# Altium footprint library SMD-IC  0607.PcbLib: 125 footprints (part 5 of 8)
Each footprint in its own frame and in the unit in brackets; x right, y up, seen from the top. Pads: shape width x height; smd on the part's side, far side on the other; paste and mask are expansions set on the pad; w line width, h text height; cw(c..) or ccw(c..) is an arc to the next point about the centre after c.
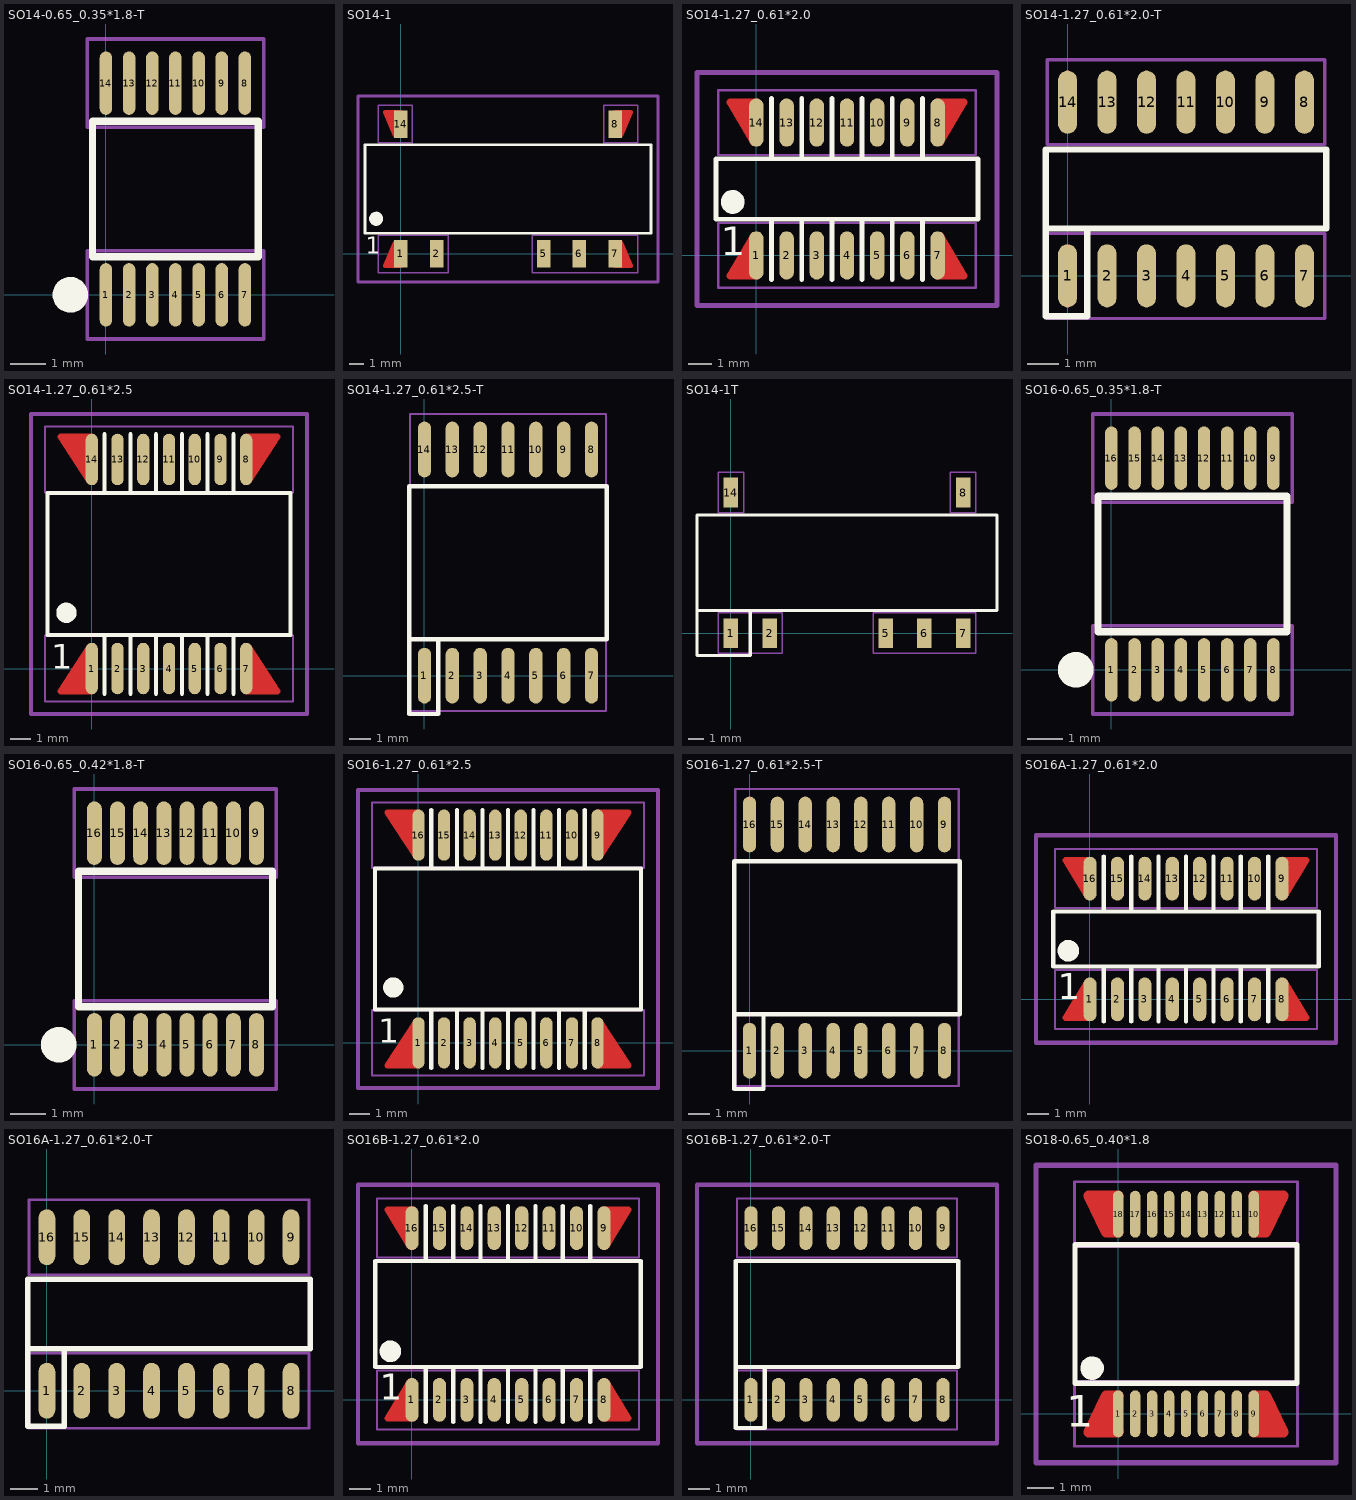
[diagram p4: the footprints below, top view; thin cyan lines are the x and y axes]

## SO14-0.65_0.35*1.8-T [mm]
height 1.1
pads (14):
  oval 0.35x1.78 smd: 1(0,0) 2(0.65,0) 3(1.3,0) 4(1.95,0) 5(2.6,0) 6(3.25,0) 7(3.9,0) 8(3.9,5.94) 9(3.25,5.94) 10(2.6,5.94) 11(1.95,5.94) 12(1.3,5.94) 13(0.65,5.94) 14(0,5.94)
Top Overlay:
  circle w0.5: c-1,0 r0.25
  lines w0.2: -0.375,1.07 -0.375,4.87 4.275,4.87 4.275,1.07 -0.375,1.07
Mechanical 15:
  lines w0.1: -0.525,-1.24 -0.525,1.24 4.425,1.24 4.425,-1.24 -0.525,-1.24 ; -0.525,4.7 4.425,4.7 4.425,7.18 -0.525,7.18 -0.525,4.7

## SO14-1 [mm]
pads (7):
  rect 0.96x1.95 smd: 1(0,0) 2(2.54,0) 5(10.16,0) 6(12.7,0) 7(15.24,0) 8(15.24,9.23) 14(0,9.23)
Top Layer:
  lines w0.305: -0.405,0.815 -1.11,-0.855 0,-0.855 ; -0.405,8.415 -1.11,10.085 0,10.085 ; 15.24,-0.855 16.35,-0.855 15.645,0.815 ; 15.24,10.085 16.35,10.085 15.645,8.415
  lines w0.61: -0.6,-0.6 -0.28,0.165 ; -0.6,9.83 -0.28,9.065 ; 15.52,0.165 15.84,-0.6 ; 15.52,9.065 15.84,9.83
Top Overlay:
  circle w0.5: c-1.75,2.5 r0.25
  lines w0.2: -2.54,1.475 17.78,1.475 17.78,7.755 -2.54,7.755 -2.54,1.475
  text "1" at -2.5,0 h1.2
Top Solder:
  lines w0.305: -0.405,0.815 -1.11,-0.855 0,-0.855 ; -0.405,8.415 -1.11,10.085 0,10.085 ; 15.24,-0.855 16.35,-0.855 15.645,0.815 ; 15.24,10.085 16.35,10.085 15.645,8.415
  lines w0.61: -0.6,-0.6 -0.28,0.165 ; -0.6,9.83 -0.28,9.065 ; 15.52,0.165 15.84,-0.6 ; 15.52,9.065 15.84,9.83
Mechanical 8:
  lines w0.2: -3.04,-2 -3.04,11.23 18.28,11.23 18.28,-2 -3.04,-2
Mechanical 16:
  lines w0.1: -1.613,-1.325 -1.613,1.325 3.37,1.325 3.37,-1.325 -1.613,-1.325 ; -1.613,7.905 -1.613,10.555 0.83,10.555 0.83,7.905 -1.613,7.905 ; 9.33,-1.325 9.33,1.325 16.853,1.325 16.853,-1.325 9.33,-1.325 ; 14.41,7.905 16.853,7.905 16.853,10.555 14.41,10.555 14.41,7.905

## SO14-1.27_0.61*2.0 [mil]
height 68.9
pads (14):
  oval 24x80 smd: 1(0,0) 2(50,0) 3(100,0) 4(150,0) 5(200,0) 6(250,0) 7(300,0) 8(300,220) 9(250,220) 10(200,220) 11(150,220) 12(100,220) 13(50,220) 14(0,220)
Top Layer:
  lines w12: -4.33,32.48 -43.7,-33.66 0,-33.66 ; -4.33,187.52 -43.7,253.66 0,253.66 ; 300,-33.66 343.7,-33.66 304.33,32.48 ; 300,253.66 343.7,253.66 304.33,187.52
  lines w24: -23.62,-23.62 -11.81,-3.94 ; -23.62,243.62 -11.81,223.94 ; 311.81,-3.94 323.62,-23.62 ; 311.81,223.94 323.62,243.62
Top Overlay:
  circle w19.68: c-39.37,88.58 r9.84
  lines w7.87: 25,-40.35 25,60 ; 25,160 25,260.35 ; 75,-40.35 75,60 ; 75,160 75,260.35 ; 125,-40.35 125,60 ; 125,160 125,260.35 ; 175,-40.35 175,60 ; 175,160 175,260.35 ; 225,-40.35 225,60 ; 225,160 225,260.35 ; 275,-40.35 275,60 ; 275,160 275,260.35 ; -66.93,60 -66.93,160 366.93,160 366.93,60 -66.93,60
  text "1" at -59.06,0 h47.24
Top Solder:
  lines w12: -4.33,32.48 -43.7,-33.66 0,-33.66 ; -4.33,187.52 -43.7,253.66 0,253.66 ; 300,-33.66 343.7,-33.66 304.33,32.48 ; 300,253.66 343.7,253.66 304.33,187.52
  lines w24: -23.62,-23.62 -11.81,-3.94 ; -23.62,243.62 -11.81,223.94 ; 311.81,-3.94 323.62,-23.62 ; 311.81,223.94 323.62,243.62
Mechanical 8:
  lines w7.87: -98.43,-82.91 398.43,-82.91 398.43,302.91 -98.43,302.91 -98.43,-82.91
Mechanical 16:
  lines w3.94: -63.48,-53.78 363.48,-53.78 363.48,53.78 -63.48,53.78 -63.48,-53.78 ; -63.48,166.22 -63.48,273.78 363.48,273.78 363.48,166.22 -63.48,166.22

## SO14-1.27_0.61*2.0-T [mil]
height 68.9
pads (14):
  oval 24x80 smd: 1(0,0) 2(50,0) 3(100,0) 4(150,0) 5(200,0) 6(250,0) 7(300,0) 8(300,220) 9(250,220) 10(200,220) 11(150,220) 12(100,220) 13(50,220) 14(0,220)
Top Overlay:
  lines w7.87: -27.56,60 327.56,60 327.56,160 -27.56,160 -27.56,-51.18 25,-51.18 25,60
Mechanical 15:
  lines w3.94: -25.78,-53.78 -25.78,53.82 325.78,53.78 325.78,-53.78 -25.78,-53.78 ; -25.78,166.22 325.78,166.22 325.78,273.82 -25.78,273.78 -25.78,166.22

## SO14-1.27_0.61*2.5 [mil]
height 68.9
pads (14):
  oval 24x100 smd: 1(0,0) 2(50,0) 3(100,0) 4(150,0) 5(200,0) 6(250,0) 7(300,0) 8(300,406) 9(250,406) 10(200,406) 11(150,406) 12(100,406) 13(50,406) 14(0,406)
Top Layer:
  lines w12: -4.92,41.34 -60.24,-44.09 0,-44.09 ; -4.92,364.66 -60.24,450.09 0,450.09 ; 300,-44.09 360.24,-44.09 304.92,41.34 ; 300,450.09 360.24,450.09 304.92,364.66
  lines w24: -41.34,-37.4 -9.84,9.84 ; -41.34,443.4 -9.84,396.16 ; -21.65,-35.43 -12.8,-24.61 ; -21.65,441.43 -12.8,430.61 ; 309.84,9.84 341.34,-37.4 ; 309.84,396.16 341.34,443.4 ; 312.8,-24.61 321.65,-35.43 ; 312.8,430.61 321.65,441.43
Top Overlay:
  circle w19.68: c-49.21,108.27 r9.84
  lines w7.87: 25,-48.97 25,65.2 ; 25,340.8 25,454.97 ; 75,-48.97 75,65.2 ; 75,340.8 75,454.97 ; 125,-48.97 125,65.2 ; 125,340.8 125,454.97 ; 175,-48.97 175,65.2 ; 175,340.8 175,454.97 ; 225,-48.97 225,65.2 ; 225,340.8 225,454.97 ; 275,-48.97 275,65.2 ; 275,340.8 275,454.97 ; -86.22,65.2 386.22,65.2 386.22,340.8 -86.22,340.8 -86.22,65.2
  text "1" at -78.74,0 h47.24
Top Solder:
  lines w12: -4.92,41.34 -60.24,-44.09 0,-44.09 ; -4.92,364.66 -60.24,450.09 0,450.09 ; 300,-44.09 360.24,-44.09 304.92,41.34 ; 300,450.09 360.24,450.09 304.92,364.66
  lines w24: -41.34,-37.4 -9.84,9.84 ; -41.34,443.4 -9.84,396.16 ; -21.65,-35.43 -12.79,-24.61 ; -21.65,441.43 -12.79,430.61 ; 309.84,9.84 341.34,-37.4 ; 309.84,396.16 341.34,443.4 ; 312.8,-24.61 321.65,-35.43 ; 312.8,430.61 321.65,441.43
Mechanical 8:
  lines w7.87: -118.11,-88.34 418.11,-88.34 418.11,494.34 -118.11,494.34 -118.11,-88.34
Mechanical 16:
  lines w3.94: -90.65,-63.78 -90.65,63.78 390.65,63.78 390.65,-63.78 -90.65,-63.78 ; -90.65,342.22 -90.65,469.78 390.65,469.78 390.65,342.22 -90.65,342.22

## SO14-1.27_0.61*2.5-T [mil]
height 68.9
pads (14):
  oval 24x100 smd: 1(0,0) 2(50,0) 3(100,0) 4(150,0) 5(200,0) 6(250,0) 7(300,0) 8(300,406) 9(250,406) 10(200,406) 11(150,406) 12(100,406) 13(50,406) 14(0,406)
Top Overlay:
  lines w7.87: -27.56,65 327.56,65 327.56,340 -27.56,340 -27.56,-68.9 25,-68.9 25,65
Mechanical 15:
  lines w3.94: -25.78,-63.78 325.78,-63.78 325.78,63.78 -25.78,63.78 -25.78,-63.78 ; -25.78,342.22 -25.78,469.78 325.78,469.78 325.78,342.22 -25.78,342.22

## SO14-1T [mm]
pads (7):
  rect 0.96x1.95 smd: 1(0,0) 2(2.54,0) 5(10.16,0) 6(12.7,0) 7(15.24,0) 8(15.24,9.23) 14(0,9.23)
Top Overlay:
  lines w0.2: -2.225,1.475 17.465,1.475 17.465,7.755 -2.225,7.755 -2.225,-1.475 1.27,-1.475 1.27,1.475
Mechanical 15:
  lines w0.1: -0.83,-1.325 3.37,-1.325 3.37,1.325 -0.83,1.325 -0.83,-1.325 ; -0.83,7.905 0.83,7.905 0.83,10.555 -0.83,10.555 -0.83,7.905 ; 9.33,-1.325 9.33,1.325 16.07,1.325 16.07,-1.325 9.33,-1.325 ; 14.41,7.905 14.41,10.555 16.07,10.555 16.07,7.905 14.41,7.905

## SO16-0.65_0.35*1.8-T [mm]
height 1.1
pads (16):
  oval 0.35x1.78 smd: 1(0,0) 2(0.65,0) 3(1.3,0) 4(1.95,0) 5(2.6,0) 6(3.25,0) 7(3.9,0) 8(4.55,0) 9(4.55,5.94) 10(3.9,5.94) 11(3.25,5.94) 12(2.6,5.94) 13(1.95,5.94) 14(1.3,5.94) 15(0.65,5.94) 16(0,5.94)
Top Overlay:
  circle w0.5: c-1,0 r0.25
  lines w0.2: -0.375,1.07 4.925,1.07 4.925,4.87 -0.375,4.87 -0.375,1.07
Mechanical 15:
  lines w0.1: -0.525,-1.24 -0.525,1.24 5.075,1.24 5.075,-1.24 -0.525,-1.24 ; -0.525,4.7 5.075,4.7 5.075,7.18 -0.525,7.18 -0.525,4.7

## SO16-0.65_0.42*1.8-T [mm] "U?"
height 0.9
pads (16):
  oval 0.42x1.78 smd: 1(0,0) 2(0.65,0) 3(1.3,0) 4(1.95,0) 5(2.6,0) 6(3.25,0) 7(3.9,0) 8(4.55,0) 9(4.55,5.94) 10(3.9,5.94) 11(3.25,5.94) 12(2.6,5.94) 13(1.95,5.94) 14(1.3,5.94) 15(0.65,5.94) 16(0,5.94)
Top Overlay:
  circle w0.5: c-1,0 r0.25
  lines w0.2: -0.45,1.07 -0.45,4.87 5,4.87 5,1.07 -0.45,1.07
Mechanical 15:
  lines w0.1: -0.56,-1.24 -0.56,1.24 5.11,1.24 5.11,-1.24 -0.56,-1.24 ; -0.56,4.7 5.11,4.7 5.11,7.18 -0.56,7.18 -0.56,4.7

## SO16-1.27_0.61*2.5 [mil] "2510156013 (MC34025DWR2G)"
height 104.33
pads (16):
  oval 24x100 smd: 1(0,0) 2(50,0) 3(100,0) 4(150,0) 5(200,0) 6(250,0) 7(300,0) 8(350,0) 9(350,406) 10(300,406) 11(250,406) 12(200,406) 13(150,406) 14(100,406) 15(50,406) 16(0,406)
Top Layer:
  lines w12: -4.92,41.34 -60.24,-44.09 0,-44.09 ; -4.92,364.66 -60.24,450.09 0,450.09 ; 350,-44.09 410.24,-44.09 354.92,41.34 ; 350,450.09 410.24,450.09 354.92,364.66
  lines w24: -41.34,-37.4 -9.84,9.84 ; -41.34,443.4 -9.84,396.16 ; -21.65,-35.43 -12.8,-24.61 ; -21.65,441.43 -12.8,430.61 ; 359.84,9.84 391.34,-37.4 ; 359.84,396.16 391.34,443.4 ; 362.8,-24.61 371.65,-35.43 ; 362.8,430.61 371.65,441.43
Top Overlay:
  circle w19.68: c-49.21,108.27 r9.84
  lines w7.87: 25,-48.97 25,65.2 ; 25,340.8 25,454.97 ; 75,-48.97 75,65.2 ; 75,340.8 75,454.97 ; 125,-48.97 125,65.2 ; 125,340.8 125,454.97 ; 175,-48.97 175,65.2 ; 175,340.8 175,454.97 ; 225,-48.97 225,65.2 ; 225,340.8 225,454.97 ; 275,-48.97 275,65.2 ; 275,340.8 275,454.97 ; 325,-48.97 325,65.2 ; 325,340.8 325,454.97 ; -84.84,65.2 434.84,65.2 434.84,340.8 -84.84,340.8 -84.84,65.2
  text "1" at -78.74,0 h47.24
Top Solder:
  lines w12: -4.92,41.34 -60.24,-44.09 0,-44.09 ; -4.92,364.66 -60.24,450.09 0,450.09 ; 350,-44.09 410.24,-44.09 354.92,41.34 ; 350,450.09 410.24,450.09 354.92,364.66
  lines w24: -41.34,-37.4 -9.84,9.84 ; -41.34,443.4 -9.84,396.16 ; -21.65,-35.43 -12.79,-24.61 ; -21.65,441.43 -12.79,430.61 ; 359.84,9.84 391.34,-37.4 ; 359.84,396.16 391.34,443.4 ; 362.8,-24.61 371.65,-35.43 ; 362.8,430.61 371.65,441.43
Mechanical 8:
  lines w7.87: -118.11,-88.34 468.11,-88.34 468.11,494.34 -118.11,494.34 -118.11,-88.34
Mechanical 16:
  lines w3.94: -90.65,-63.78 -90.65,63.78 440.65,63.78 440.65,-63.78 -90.65,-63.78 ; -90.65,342.22 -90.65,469.78 440.65,469.78 440.65,342.22 -90.65,342.22

## SO16-1.27_0.61*2.5-T [mil] "2510156013 (MC34025DWR2G)"
height 104.33
pads (16):
  oval 24x100 smd: 1(0,0) 2(50,0) 3(100,0) 4(150,0) 5(200,0) 6(250,0) 7(300,0) 8(350,0) 9(350,406) 10(300,406) 11(250,406) 12(200,406) 13(150,406) 14(100,406) 15(50,406) 16(0,406)
Top Overlay:
  lines w7.87: -27.56,65 377.56,65 377.56,340 -27.56,340 -27.56,-68.9 25,-68.9 25,65
Mechanical 15:
  lines w3.94: -25.78,-63.78 -25.78,63.78 375.78,63.78 375.78,-63.78 -25.78,-63.78 ; -25.78,342.22 375.78,342.22 375.78,469.78 -25.78,469.78 -25.78,342.22

## SO16A-1.27_0.61*2.0 [mil]
height 68.9
pads (16):
  oval 24x80 smd: 1(0,0) 2(50,0) 3(100,0) 4(150,0) 5(200,0) 6(250,0) 7(300,0) 8(350,0) 9(350,220) 10(300,220) 11(250,220) 12(200,220) 13(150,220) 14(100,220) 15(50,220) 16(0,220)
Top Layer:
  lines w12: -4.33,32.48 -43.7,-33.66 0,-33.66 ; -4.33,187.52 -43.7,253.66 0,253.66 ; 350,-33.66 393.7,-33.66 354.33,32.48 ; 350,253.66 393.7,253.66 354.33,187.52
  lines w24: -23.62,-23.62 -11.81,-3.94 ; -23.62,243.62 -11.81,223.94 ; 361.81,-3.94 373.62,-23.62 ; 361.81,223.94 373.62,243.62
Top Overlay:
  circle w19.68: c-39.37,88.58 r9.84
  lines w7.87: 25,-40.35 25,60 ; 25,160 25,260.35 ; 75,-40.35 75,60 ; 75,160 75,260.35 ; 125,-40.35 125,60 ; 125,160 125,260.35 ; 175,-40.35 175,60 ; 175,160 175,260.35 ; 225,-40.35 225,60 ; 225,160 225,260.35 ; 275,-40.35 275,60 ; 275,160 275,260.35 ; 325,-40.35 325,60 ; 325,160 325,260.35 ; -66.93,60 416.93,60 416.93,160 -66.93,160 -66.93,60
  text "1" at -59.06,0 h47.24
Top Solder:
  lines w12: -4.33,32.48 -43.7,-33.66 0,-33.66 ; -4.33,187.52 -43.7,253.66 0,253.66 ; 350,-33.66 393.7,-33.66 354.33,32.48 ; 350,253.66 393.7,253.66 354.33,187.52
  lines w24: -23.62,-23.62 -11.81,-3.94 ; -23.62,243.62 -11.81,223.94 ; 361.81,-3.94 373.62,-23.62 ; 361.81,223.94 373.62,243.62
Mechanical 8:
  lines w7.87: -98.43,-78.98 448.43,-78.98 448.43,298.98 -98.43,298.98 -98.43,-78.98
Mechanical 16:
  lines w3.94: -63.48,-53.78 413.48,-53.78 413.48,53.78 -63.48,53.78 -63.48,-53.78 ; -63.48,166.22 -63.48,273.78 413.48,273.78 413.48,166.22 -63.48,166.22

## SO16A-1.27_0.61*2.0-T [mil]
height 68.9
pads (16):
  oval 24x80 smd: 1(0,0) 2(50,0) 3(100,0) 4(150,0) 5(200,0) 6(250,0) 7(300,0) 8(350,0) 9(350,220) 10(300,220) 11(250,220) 12(200,220) 13(150,220) 14(100,220) 15(50,220) 16(0,220)
Top Overlay:
  lines w7.87: -27.56,60 377.56,60 377.56,160 -27.56,160 -27.56,-51.18 25,-51.18 25,60
Mechanical 15:
  lines w3.94: -25.78,-53.78 375.78,-53.78 375.78,53.82 -25.78,53.78 -25.78,-53.78 ; -25.78,166.22 -25.78,273.82 375.78,273.78 375.78,166.22 -25.78,166.22

## SO16B-1.27_0.61*2.0 [mm]
height 1.5
pads (16):
  oval 0.61x2.032 smd: 1(0,0) 2(1.27,0) 3(2.54,0) 4(3.81,0) 5(5.08,0) 6(6.35,0) 7(7.62,0) 8(8.89,0) 9(8.89,7.95) 10(7.62,7.95) 11(6.35,7.95) 12(5.08,7.95) 13(3.81,7.95) 14(2.54,7.95) 15(1.27,7.95) 16(0,7.95)
Top Layer:
  lines w0.305: -0.11,0.825 -1.11,-0.855 0,-0.855 ; -0.11,7.125 -1.11,8.805 0,8.805 ; 8.89,-0.855 10,-0.855 9,0.825 ; 8.89,8.805 10,8.805 9,7.125
  lines w0.61: -0.6,-0.6 -0.3,-0.1 ; -0.6,8.55 -0.3,8.05 ; 9.19,-0.1 9.49,-0.6 ; 9.19,8.05 9.49,8.55
Top Overlay:
  circle w0.5: c-1,2.25 r0.25
  lines w0.2: 0.635,-1.025 0.635,1.524 ; 0.635,6.426 0.635,8.975 ; 1.905,-1.025 1.905,1.524 ; 1.905,6.426 1.905,8.975 ; 3.175,-1.025 3.175,1.524 ; 3.175,6.426 3.175,8.975 ; 4.445,-1.025 4.445,1.524 ; 4.445,6.426 4.445,8.975 ; 5.715,-1.025 5.715,1.524 ; 5.715,6.426 5.715,8.975 ; 6.985,-1.025 6.985,1.524 ; 6.985,6.426 6.985,8.975 ; 8.255,-1.025 8.255,1.524 ; 8.255,6.426 8.255,8.975 ; -1.7,1.524 -1.7,6.426 10.59,6.426 10.59,1.524 -1.7,1.524
  text "1" at -1.5,0 h1.2
Top Solder:
  lines w0.305: -0.11,0.825 -1.11,-0.855 0,-0.855 ; -0.11,7.125 -1.11,8.805 0,8.805 ; 8.89,-0.855 10,-0.855 9,0.825 ; 8.89,8.805 10,8.805 9,7.125
  lines w0.61: -0.6,-0.6 -0.3,-0.1 ; -0.6,8.55 -0.3,8.05 ; 9.19,-0.1 9.49,-0.6 ; 9.19,8.05 9.49,8.55
Mechanical 8:
  lines w0.2: -2.5,-2.006 -2.5,9.956 11.39,9.956 11.39,-2.006 -2.5,-2.006
Mechanical 16:
  lines w0.1: -1.613,-1.366 -1.613,1.366 10.503,1.366 10.503,-1.366 -1.613,-1.366 ; -1.613,6.584 -1.613,9.316 10.503,9.316 10.503,6.584 -1.613,6.584

## SO16B-1.27_0.61*2.0-T [mm]
height 1.5
pads (16):
  oval 0.61x2.032 smd: 1(0,0) 2(1.27,0) 3(2.54,0) 4(3.81,0) 5(5.08,0) 6(6.35,0) 7(7.62,0) 8(8.89,0) 9(8.89,7.95) 10(7.62,7.95) 11(6.35,7.95) 12(5.08,7.95) 13(3.81,7.95) 14(2.54,7.95) 15(1.27,7.95) 16(0,7.95)
Top Overlay:
  lines w0.2: -0.7,1.524 9.59,1.524 9.59,6.426 -0.7,6.426 -0.7,-1.3 0.635,-1.3 0.635,1.524
Mechanical 7:
  lines w0.2: -2.5,-2.006 11.39,-2.006 11.39,9.956 -2.5,9.956 -2.5,-2.006
Mechanical 15:
  lines w0.1: -0.655,9.316 9.545,9.316 ; -0.655,9.317 -0.655,6.584 9.545,6.584 9.545,9.317 ; -0.655,-1.367 -0.655,1.366 9.545,1.366 9.545,-1.367 -0.655,-1.366

## SO18-0.65_0.40*1.8 [mm]
pads (18):
  oval 0.4x1.8 smd: 1(0,0) 2(0.65,0) 3(1.3,0) 4(1.95,0) 5(2.6,0) 6(3.25,0) 7(3.9,0) 8(4.55,0) 9(5.2,0) 10(5.2,7.65) 11(4.55,7.65) 12(3.9,7.65) 13(3.25,7.65) 14(2.6,7.65) 15(1.95,7.65) 16(1.3,7.65) 17(0.65,7.65) 18(0,7.65)
Top Layer:
  lines w0.4: -0.7,-0.7 -0.7,0.175 ; -0.7,7.475 -0.7,8.35 ; -0.3,-0.55 -0.3,0.325 ; -0.3,7.325 -0.3,8.2 ; 0,-0.7 -1.125,-0.7 -0.45,0.7 0,0.7 ; 0,6.95 -0.45,6.95 -1.125,8.35 0,8.35 ; 5.2,-0.7 6.325,-0.7 5.65,0.7 5.2,0.7 ; 5.2,6.95 5.65,6.95 6.325,8.35 5.2,8.35 ; 5.5,-0.55 5.5,0.325 ; 5.5,7.325 5.5,8.2 ; 5.9,-0.7 5.9,0.175 ; 5.9,7.475 5.9,8.35
Top Overlay:
  circle w0.5: c-1,1.75 r0.2
  lines w0.2: -1.65,1.17 6.85,1.17 6.85,6.48 -1.65,6.48 -1.65,1.17
  text "1" at -2,-0.5 h1.2
Top Solder:
  lines w0.4: 0,-0.7 -1.125,-0.7 -0.45,0.7 0,0.7 ; 0,6.95 -0.45,6.95 -1.125,8.35 0,8.35 ; 5.2,-0.7 6.325,-0.7 5.65,0.7 5.2,0.7 ; 5.2,6.95 5.65,6.95 6.325,8.35 5.2,8.35
  lines w0.8: -0.425,-0.4 -0.425,0.3 ; -0.425,7.35 -0.425,8.05 ; 5.625,-0.4 5.625,0.3 ; 5.625,7.35 5.625,8.05
Mechanical 8:
  lines w0.2: -3.15,-1.875 8.35,-1.875 8.35,9.525 -3.15,9.525 -3.15,-1.875
Mechanical 16:
  lines w0.1: -1.675,-1.25 6.875,-1.25 6.875,1.25 -1.675,1.25 -1.675,-1.25 ; -1.675,6.4 -1.675,8.9 6.875,8.9 6.875,6.4 -1.675,6.4